# Altium footprint library PCB - EByte - E104-BT52.PCBLIB: 1 footprints
Each footprint in its own frame and in the unit in brackets; x right, y up, seen from the top. Pads: shape width x height; smd on the part's side, far side on the other; paste and mask are expansions set on the pad; w line width, h text height; cw(c..) or ccw(c..) is an arc to the next point about the centre after c.
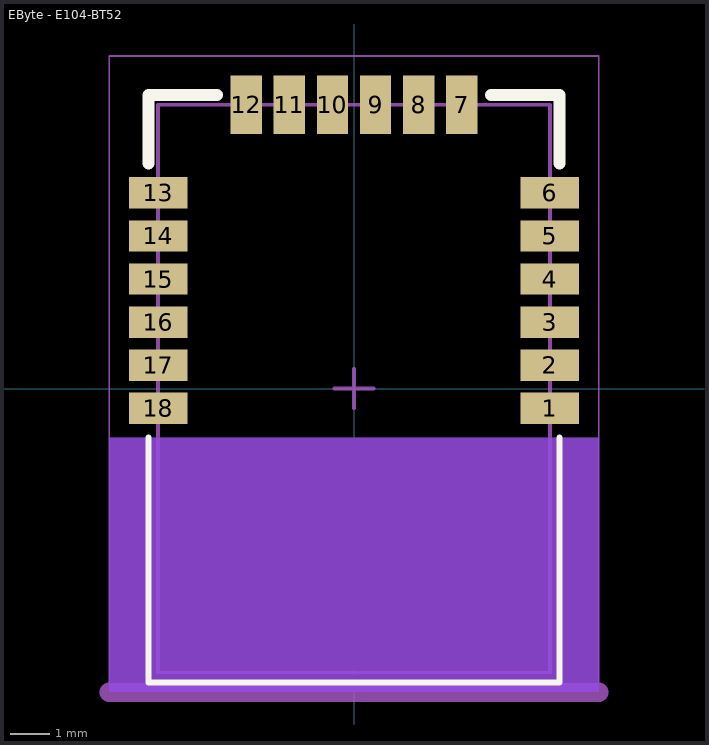
[diagram p0: the footprint, top view; thin cyan lines are the x and y axes]

## EByte - E104-BT52 [mm] "BLE5.0 low power SMD BLE to serial module, 18-Leads, Body 14x10mm, IPC Medium Density"
height 0.7
pads (18):
  rect 1.5x0.8 smd: 1(5,-0.5) 2(5,0.6) 3(5,1.7) 4(5,2.8) 5(5,3.9) 6(5,5) 13(-5,5) 14(-5,3.9) 15(-5,2.8) 16(-5,1.7) 17(-5,0.6) 18(-5,-0.5)
  rect 0.8x1.5 smd: 7(2.75,7.25) 8(1.65,7.25) 9(0.55,7.25) 10(-0.55,7.25) 11(-1.65,7.25) 12(-2.75,7.25)
Top Layer keep-out:
  rectangle: -6.25,-7.75 6.25,-1.25
Bottom Layer keep-out:
  rectangle: -6.25,-7.75 6.25,-1.25
Top Overlay:
  lines w0.15: -5.25,-1.25 -5.25,-7.5 5.25,-7.5 5.25,-1.25
  lines w0.3: -5.25,5.75 -5.25,7.5 -3.5,7.5 ; 3.5,7.5 5.25,7.5 5.25,5.75
Top Assembly:
  lines w0.1: -5,-7.25 -5,7.25 5,7.25 5,-7.25 -5,-7.25
Board Shape:
  lines w0.5: -6.25,-7.75 6.25,-7.75
Top Courtyard:
  lines w0.05: -6.25,-7.75 -6.25,8.5 6.25,8.5 6.25,-7.75 -6.25,-7.75
Top Component Center:
  lines w0.1: -0.5,0 0.5,0 ; 0,-0.5 0,0.5
3D body "Ebyte E104-BT52.x_t": height 4.01, standoff 0, extent -5,-7.25 5,7.25